# Altium schematic symbol library Common.SchLib: 45 symbols
Pins are listed as number, name and electrical type; pins without a type are passive.

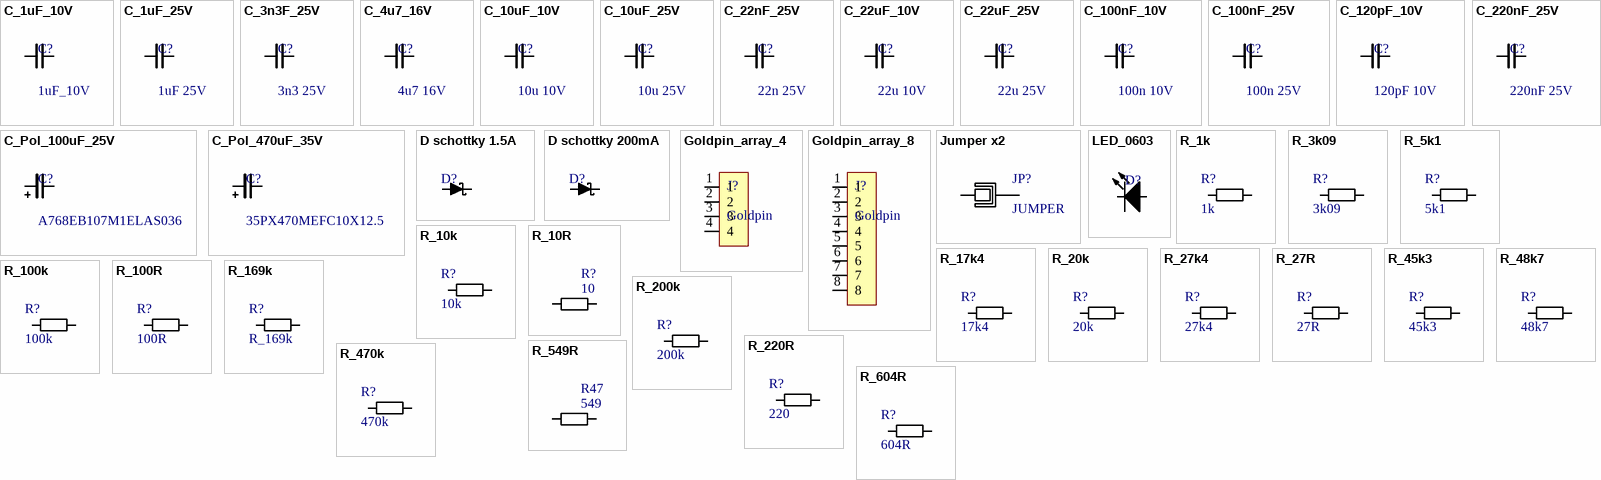
[diagram p0: symbols C_1uF_10V to R_604R]

## C_1uF_10V
designator C?, comment 1uF_10V
Ceramic capacitor; Value: 1u; Voltage: 10V; Casing: 0603; Dielectric: X7R; Tolerance: 10%; Technology: Ceramic
footprint C_0603
pins: 1, 2

## C_1uF_25V
designator C?, comment 1uF 25V
Ceramic capacitor; Value: 1u; Casing: 0603; Dielectric: XR7; Tolerance: 10%; Voltage: 25V; Technology: Ceramic
footprint C_0603
pins: 1, 2

## C_3n3F_25V
designator C?, comment 3n3 25V
Ceramic capacitor; Casing: 0603; Dielectric: XR7; Tolerance: 10%; Value: 3n3; Voltage: 25V; Technology: Ceramic
footprint C_0603
pins: 1, 2

## C_4u7_16V
designator C?, comment 4u7 16V
Ceramic capacitor; Casing: 0603; Dielectric: X5R; Tolerance: 10%; Value: 4u7; Voltage: 16V; Technology: Ceramic
footprint C_0603
pins: 1, 2

## C_10uF_10V
designator C?, comment 10u 10V
Ceramic capacitor; Casing: 0805; Dielectric: X5R; Tolerance: 10%; Value: 10u; Voltage: 10V; Technology: Ceramic
footprint C_0805 (Chip Capacitor, 2-Leads, Body 2.00x1.20mm)
pins: 1, 2

## C_10uF_25V
designator C?, comment 10u 25V
Ceramic capacitor; Casing: 0805; Dielectric: X5R; Tolerance: 10%; Value: 10u; Voltage: 25V; Technology: Ceramic
footprint C_0805 (Chip Capacitor, 2-Leads, Body 2.00x1.20mm)
pins: 1, 2

## C_22nF_25V
designator C?, comment 22n 25V
Ceramic capacitor; Casing: 0603; Dielectric: X5R; Tolerance: 10%; Value: 22n; Voltage: 25V; Technology: Ceramic
footprint C_0603
pins: 1, 2

## C_22uF_10V
designator C?, comment 22u 10V
Ceramic capacitor; Casing: 1206; Dielectric: X5R; Tolerance: 20%; Value: 22u; Voltage: 10V; Technology: Ceramic
footprint C_1206 (Chip Capacitor, 2-Leads, Body 3.25x1.60mm, IPC Medium Density)
pins: 1, 2

## C_22uF_25V
designator C?, comment 22u 25V
Ceramic capacitor; Casing: 1206; Dielectric: X7R; Tolerance: 20%; Value: 22u; Voltage: 25V; Technology: Ceramic
footprint C_1206 (Chip Capacitor, 2-Leads, Body 3.25x1.60mm, IPC Medium Density)
pins: 1, 2

## C_100nF_10V
designator C?, comment 100n 10V
Ceramic capacitor; Casing: 0603; Dielectric: X7R; Tolerance: 10%; Value: 100n; Voltage: 10V; Technology: Ceramic
footprint C_0603
pins: 1, 2

## C_100nF_25V
designator C?, comment 100n 25V
Ceramic capacitor; Casing: 0603; Dielectric: X7R; Tolerance: 10%; Value: 100n; Voltage: 25V; Technology: Ceramic
footprint C_0603
pins: 1, 2

## C_120pF_10V
designator C?, comment 120pF 10V
Ceramic capacitor; Value: 120p; Casing: 0603; Dielectric: XR7; Tolerance: 10%; Voltage: 10V; Technology: Ceramic
footprint C_0603
pins: 1, 2

## C_220nF_25V
designator C?, comment 220nF 25V
Ceramic capacitor; Value: 220n; Casing: 0603; Dielectric: XR7; Tolerance: 10%; Voltage: 25V; Technology: Ceramic
footprint C_0603
pins: 1, 2

## C_Pol_100uF_25V
designator C?, comment A768EB107M1ELAS036
Aluminum Organic Polymer Capacitors 25Vol 100uF SMD 2KHr ESR=36 mOhms AECQ200; Manufacturer: KEMET; Voltage: 25V; Tolerance: 20%; Value: 100uF; ComponentLink1Description: Datasheet; ComponentLink1URL: https://yageogroup.com/content/datasheet/asset/file/KEM_A4088_A768; ComponentLink2Description: Supplier; ComponentLink2URL: https://www.digikey.pl/pl/products/detail/kemet/A768EB107M1ELAS036/13420071
footprint CAP_A768EB_6.8x6.8_KEM (Footprint not found)
pins: 1, 2

## C_Pol_470uF_35V
designator C?, comment 35PX470MEFC10X12.5
470 µF 35 V Aluminum Electrolytic Capacitors Radial, Can 2000 Hrs @ 105°C; Manufacturer: Rubycon; Value: 470u; Voltage: 35V; Tolerance: 20%
footprint CAP_PKPZ_10X12P5_LOW_RUB
pins: 1, 2

## D schottky 1.5A
designator D?, comment SL12-E3/61T  (value not drawn)
Schottky Diode 1500mA 30V reverse; Casing: SMA (DO-214AC); Reverse standoff voltage: 20V; VFm: 380mV@1000mA
footprint DIONM5127X229N
pins: A, K

## D schottky 200mA
designator D?, comment CUS520,H3F  (value not drawn)
Schottky Diode 200mA 30V reverse; Power: 150mW; Casing: SOD-323; VFm: 280mV@10mA; Reverse standoff voltage: 30V
footprint SOD2513X115N (Footprint not found)
pins: A, K

## Goldpin_array_4
designator J?, comment Goldpin
Goldpin Male 4
footprint goldpin4
pins: 1, 2, 3, 4

## Goldpin_array_8
designator J?, comment Goldpin
Goldpin Male 8
footprint goldpin8
pins: 1, 2, 3, 4, 5, 6, 7, 8

## Jumper x2
designator JP?, comment JUMPER
Jumper on traces
footprint Jumper (jumper on traces)
pins: 1, 2

## LED_0603
designator D?, comment RED  (value not drawn)
LED RED 0603 3.3V; Casing: 0603; Color: RED
footprint LED_0603 (Footprint not found)
pins: A, K

## R_1k
designator R?, comment 1k
Resistor; Tolerance: 1%; Power: 100mW; Casing: 0603; Value: 1k
footprint R_0603
pins: 1, 2
1 alternate drawing of the same symbol

## R_3k09
designator R?, comment 3k09
Resistor; Tolerance: 1%; Power: 100mW; Casing: 0603; Value: 3k09
footprint R_0603
pins: 1, 2
1 alternate drawing of the same symbol

## R_5k1
designator R?, comment 5k1
Resistor; Tolerance: 1%; Power: 100mW; Casing: 0603; Value: 5k1
footprint R_0603
pins: 1, 2
1 alternate drawing of the same symbol

## R_10k
designator R?, comment 10k
Resistor; Tolerance: 1%; Power: 100mW; Casing: 0603; Value: 10k
footprint R_0603
pins: 1, 2
1 alternate drawing of the same symbol

## R_10R
designator R?, comment 10
Tolerance: 1%; Power: 100mW; Casing: 0603; Value: 10
footprint R_0603
pins: 1, 2
1 alternate drawing of the same symbol

## R_17k4
designator R?, comment 17k4
Resistor; Tolerance: 1%; Power: 100mW; Casing: 0603; Value: 17k4
footprint R_0603
pins: 1, 2
1 alternate drawing of the same symbol

## R_20k
designator R?, comment 20k
Resistor; Tolerance: 1%; Power: 100mW; Casing: 0603; Value: 20k
footprint R_0603
pins: 1, 2
1 alternate drawing of the same symbol

## R_27k4
designator R?, comment 27k4
Resistor; Tolerance: 1%; Power: 100mW; Casing: 0603; Value: 27k4
footprint R_0603
pins: 1, 2
1 alternate drawing of the same symbol

## R_27R
designator R?, comment 27R
Resistor; Tolerance: 1%; Power: 100mW; Casing: 0603; Value: 27R
footprint R_0603
pins: 1, 2
1 alternate drawing of the same symbol

## R_45k3
designator R?, comment 45k3
Resistor; Tolerance: 1%; Power: 100mW; Casing: 0603; Value: 45k3
footprint R_0603
pins: 1, 2
1 alternate drawing of the same symbol

## R_48k7
designator R?, comment 48k7
Resistor; Tolerance: 1%; Power: 100mW; Casing: 0603; Value: 48k7
footprint R_0603
pins: 1, 2
1 alternate drawing of the same symbol

## R_100k
designator R?, comment 100k
Resistor; Tolerance: 1%; Power: 100mW; Casing: 0603; Value: 100k
footprint R_0603
pins: 1, 2
1 alternate drawing of the same symbol

## R_100R
designator R?, comment 100R
Resistor; Tolerance: 1%; Power: 100mW; Casing: 0603; Value: 100R
footprint R_0603
pins: 1, 2
1 alternate drawing of the same symbol

## R_169k
designator R?
Resistor; Tolerance: 1%; Power: 100mW; Casing: 0603; Value: R_169k
footprint R_0603
pins: 1, 2
1 alternate drawing of the same symbol

## R_200k
designator R?, comment 200k
Resistor; Tolerance: 1%; Power: 100mW; Casing: 0603; Value: 200k
footprint R_0603
pins: 1, 2
1 alternate drawing of the same symbol

## R_220R
designator R?, comment 220
Resistor; Tolerance: 1%; Power: 100mW; Casing: 0603; Value: 220
footprint R_0603
pins: 1, 2
1 alternate drawing of the same symbol

## R_470k
designator R?, comment 470k
Resistor; Tolerance: 1%; Power: 100mW; Casing: 0603; Value: 470k
footprint R_0603
pins: 1, 2
1 alternate drawing of the same symbol

## R_549R
designator R47, comment 549
Tolerance: 1%; Power: 100mW; Casing: 0603; Value: 549
footprint R_0603
pins: 1, 2
1 alternate drawing of the same symbol

## R_604R
designator R?, comment 604R
Resistor; Tolerance: 1%; Power: 100mW; Casing: 0603; Value: 604R
footprint R_0603
pins: 1, 2
1 alternate drawing of the same symbol

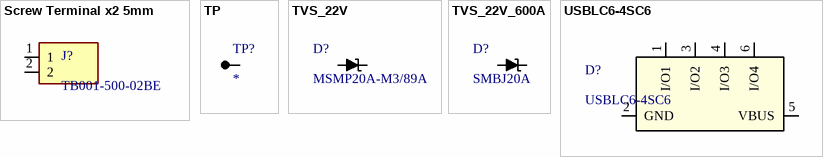
[diagram p1: symbols Screw Terminal x2 5mm to USBLC6-4SC6]

## Screw Terminal x2 5mm
designator J?, comment TB001-500-02BE
Screw terminal x2 5mm spacing; Manufacturer: Same Sky; MP: TB001-500-02BE
footprint TB00150002BE (Footprint not found)
pins: 1, 2

## TP
designator TP?
footprint TP
pins: 1 TP

## TVS_22V
designator D?, comment MSMP20A-M3/89A
22V Breakdown MSMP20A-M3/89A; ComponentLink1Description: Datasheet; ComponentLink1URL: https://www.bourns.com/docs/product-datasheets/smbj.pdf; ComponentLink2Description: Supplier; ComponentLink2URL: https://www.mouser.pl/ProductDetail/Bourns/SMBJ22A?qs=%252Bf8Cd6aE5bxYX21zv65pDQ%3D%3D; Value: 22V
footprint CR_0A-M389A_VIS (Footprint not found)
pins: A, K

## TVS_22V_600A
designator D?, comment SMBJ20A
22V Breakdown SMBJ20A; ComponentLink1Description: Datasheet; ComponentLink1URL: https://www.bourns.com/docs/product-datasheets/smbj.pdf; ComponentLink2Description: Supplier; ComponentLink2URL: https://www.mouser.pl/ProductDetail/Bourns/SMBJ22A?qs=%252Bf8Cd6aE5bxYX21zv65pDQ%3D%3D; Value: 22V
footprint SMBJSeries_LTF
pins: A, K

## USBLC6-4SC6
designator D?
Very low capacitance ESD protection; Manufacturer: STMicroelectronics; Manufacturer_Part_Number: USBLC6-4SC6
footprint SOT23-6L_STM
pins: 1 I/O1, 2 GND, 3 I/O2, 4 I/O3, 5 VBUS, 6 I/O4